# EAGLE library part TCA6507 (library firefly)
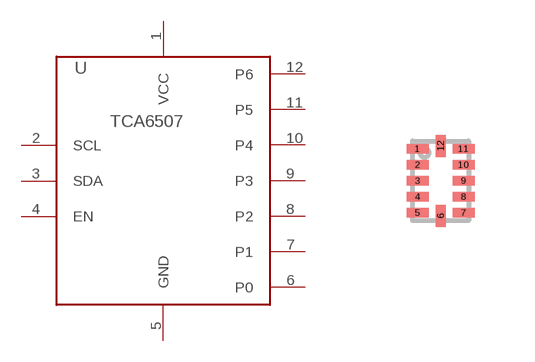
[diagram p9: symbol with the pads of R-PX2QFN-N12; footprint R-PX2QFN-N12]

Designator prefix -

## TCA6507  [R-PX2QFN-N12]
1  VCC
2  SCL
3  SDA
4  EN
5  GND
6  P0
7  P1
8  P2
9  P3
10  P4
11  P5
12  P6

## Footprint R-PX2QFN-N12 (pad centres in mm)
smd 0.55 x 0.24: 1 -0.575,0.8; 2 -0.575,0.4; 3 -0.575,0; 4 -0.575,-0.4; 5 -0.575,-0.8; 7 0.575,-0.8; 8 0.575,-0.4; 9 0.575,0; 10 0.575,0.4; 11 0.575,0.8
smd 0.25 x 0.55: 6 0,-0.875; 12 0,0.875